# Altium schematic symbol library TCLT1000.SchLib: 1 symbol
Pins are listed as number, name and electrical type; pins without a type are passive.

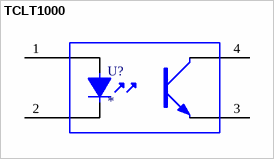
[diagram p0: symbol TCLT1000]

## TCLT1000
designator U?
footprint SOP-4L (Packages TCLT100. Series)
pins: 1, 2, 3, 4